# Altium integrated library UVR1H0R1MDD.IntLib: 1 symbol
Pins are listed as number, name and electrical type; pins without a type are passive.

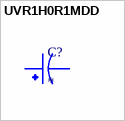
[diagram p0: symbol UVR1H0R1MDD]

## UVR1H0R1MDD
designator C?
0.1 ÂµF 50 V Aluminum Electrolytic Capacitors Radial, Can - 2000 Hrs @ 85Â°C; MF: Nichicon; MP: UVR1H0R1MDD; SnapEDA_Link: https://www.snapeda.com/parts/UVR1H0R1MDD/Nichicon/view-part/?ref=snap; Package: Radial Nichicon; Value: *; Check_prices: https://www.snapeda.com/parts/UVR1H0R1MDD/Nichicon/view-part/?ref=eda
footprint CAPPRD200W50D550H1250
pins: 1, 2